# Altium footprint library tPad_Yeongmi.PcbLib: 25 footprints (part 1 of 2)
Each footprint in its own frame and in the unit in brackets; x right, y up, seen from the top. Pads: shape width x height; smd on the part's side, far side on the other; paste and mask are expansions set on the pad; w line width, h text height; cw(c..) or ccw(c..) is an arc to the next point about the centre after c.
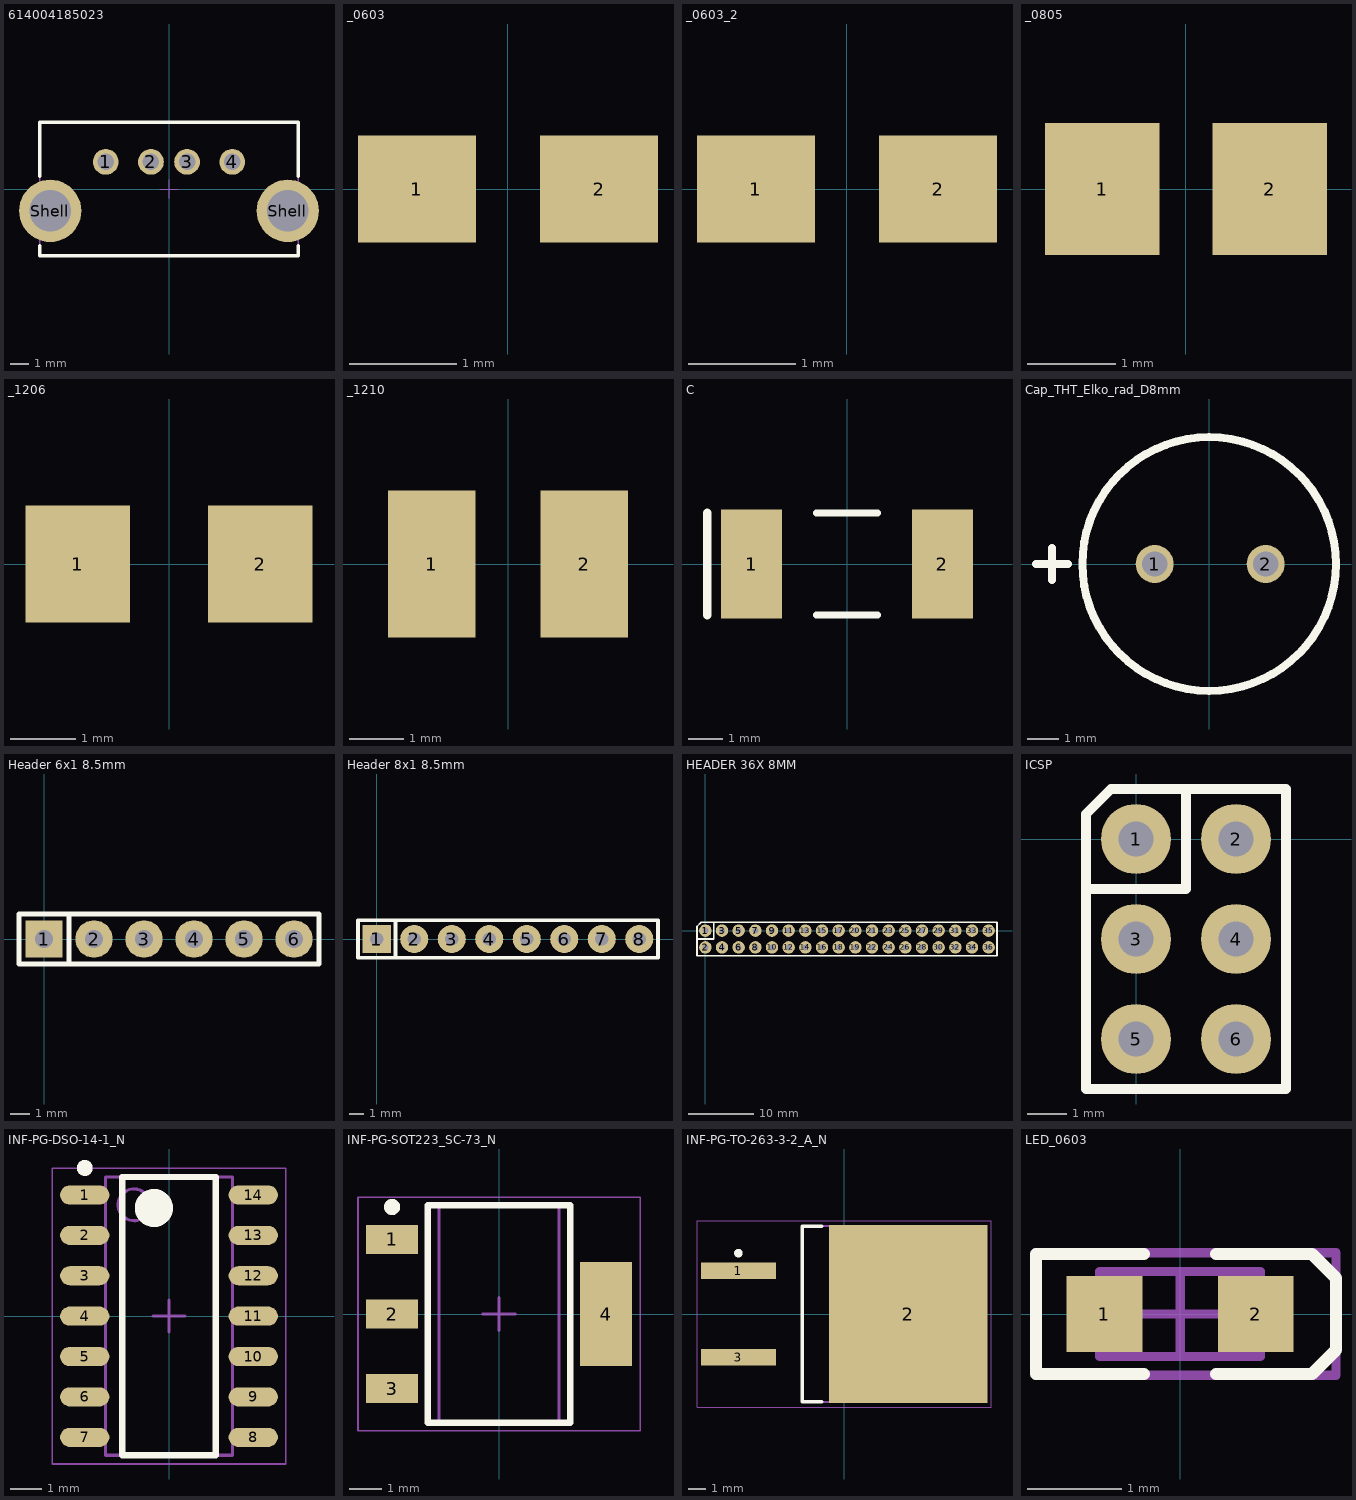
[diagram p0: the footprints below, top view; thin cyan lines are the x and y axes]

## 614004185023 [mm]
pads (6):
  round 1.42 hole 0.92: 1(-3.5,1.5) 2(-1,1.5) 3(1,1.5) 4(3.5,1.5)
  round 3.45 hole 2.3: Shell(-6.57,-1.21) Shell(6.57,-1.21)
Top Overlay:
  lines w0.2: -7.15,-3.15 -7.15,-3.7 7.15,-3.7 7.15,-3.15 ; -7.15,0.7 -7.15,3.7 7.15,3.7 7.15,0.7
Mechanical 13:
  lines w0.1: -7.15,-3.7 7.15,-3.7 7.15,3.7 -7.15,3.7 -7.15,-3.7
Mechanical 15:
  lines w0.05: -0.5,0 0.5,0 ; 0,-0.5 0,0.5
3D body "614004185023.stp": height 10.03, standoff -2.97, extent -7.15,-3.7 7.15,3.7

## _0603 [mm]
pads (2):
  rect 1.1x1 smd: 1(-0.85,0) 2(0.85,0)
3D body "SW3dPS-0603 SMD Capacitor.STEP": height 0.3, standoff 0, extent -0.8,-0.406 0.8,0.394

## _0603_2 [mm]
pads (2):
  rect 1.1x1 smd: 1(-0.85,0) 2(0.85,0)
3D body "SW3dPS-0603 SMD Capacitor.STEP": height 0.3, standoff 0, extent -0.8,-0.406 0.8,0.394

## _0805 [mm]
pads (2):
  rect 1.3x1.5 smd: 1(-0.95,0) 2(0.95,0)
3D body "SW3dPS-0805 SMD Capacitor.STEP": height 0.78, standoff 0, extent -1,-0.635 1,0.615

## _1206 [mm]
pads (2):
  rect 1.6x1.8 smd: 1(-1.4,0) 2(1.4,0)
3D body "SW3dPS-1206 SMD Resistor.STEP": height 1, standoff 0, extent -1.6,-0.813 1.6,0.787

## _1210 [mm]
pads (2):
  rect 1.6x2.7 smd: 1(-1.4,0) 2(1.4,0)
3D body "User Library-V1210HD.STEP": height 1.5, standoff 0, extent -1.575,-1.245 1.625,1.255

## C [mm]
pads (2):
  rect 1.8x3.2 smd: 1(-2.8,0) 2(2.8,0)
Top Overlay:
  lines w0.2: -0.9,-1.5 0.9,-1.5 ; -0.9,1.5 0.9,1.5
  lines w0.254: -4.1,-1.5 -4.1,1.5
3D body "User Library-2512 SMD Resistor.STEP": height 1.6, standoff 0, extent -3.175,-1.499 3.175,1.501

## Cap_THT_Elko_rad_D8mm [mm]
pads (2):
  round 1.2 hole 0.8: 1(-1.718,0) 2(1.782,0)
Top Overlay:
  circle w0.254: c0,0 r4
  lines w0.254: -5.461,0 -4.445,0 ; -4.953,-0.508 -4.953,0.508
3D body "User Library-CAP 8X11_5.STEP": height 11.74, standoff -18.75, extent -3.936,-4 4.064,4

## Header 6x1 8.5mm [mm]
pads (6):
  rect 1.9x1.9 hole 0.9: 1(0,0)
  round 1.9 hole 0.9: 2(2.54,0) 3(5.08,0) 4(7.62,0) 5(10.16,0) 6(12.7,0)
Top Overlay:
  lines w0.254: 1.27,-1.27 -1.27,-1.27 -1.27,0 -1.27,1.27 1.27,1.27 ; 1.27,-1.27 1.27,1.27 ; 1.27,-1.27 13.97,-1.27 13.97,1.27 1.27,1.27
3D body "SIL_Socket06.stp": height 8.5, standoff -14.85, extent -1.27,-1.27 13.97,1.27

## Header 8x1 8.5mm [mm]
pads (8):
  rect 1.9x1.9 hole 0.9: 1(0,0)
  round 1.9 hole 0.9: 2(2.54,0) 3(5.08,0) 4(7.62,0) 5(10.16,0) 6(12.7,0) 7(15.24,0) 8(17.78,0)
Top Overlay:
  lines w0.254: 1.27,-1.27 1.27,1.27 ; -1.27,-1.27 -1.27,1.27 19.05,1.27 19.05,-1.27 -1.27,-1.27
3D body "SIL_Socket08_.stp": height 8.5, standoff -14.85, extent -1.27,-1.27 19.05,1.27

## HEADER 36X 8MM [mm]
pads (36):
  round 1.9 hole 0.9: 1(0,0) 2(0,-2.54) 3(2.54,0) 4(2.54,-2.54) 5(5.08,0) 6(5.08,-2.54) 7(7.62,0) 8(7.62,-2.54) 9(10.16,0) 10(10.16,-2.54) 11(12.7,0) 12(12.7,-2.54) 13(15.24,0) 14(15.24,-2.54) 15(17.78,0) 16(17.78,-2.54) 17(20.32,0) 18(20.32,-2.54) 19(22.86,-2.54) 20(22.86,0) 21(25.4,0) 22(25.4,-2.54) 23(27.94,0) 24(27.94,-2.54) 25(30.48,0) 26(30.48,-2.54) 27(33.02,0) 28(33.02,-2.54) 29(35.56,0) 30(35.56,-2.54) 31(38.1,0) 32(38.1,-2.54) 33(40.64,0) 34(40.64,-2.54) 35(43.18,0) 36(43.18,-2.54)
Top Overlay:
  lines w0.254: -1.27,-1.27 1.27,-1.27 1.27,1.27 ; -1.27,-3.81 44.45,-3.81 44.45,1.27 -0.635,1.27 -1.27,0.635 -1.27,-3.81
3D body "SIL_Socket36.stp": height 8.5, standoff -14.85, extent -1.27,-3.81 44.45,1.27

## ICSP [mil]
pads (6):
  round 70 hole 35.43: 1(0,0) 2(100,0) 3(0,-100) 4(100,-100) 5(0,-200) 6(100,-200)
Top Overlay:
  lines w10: -50,-50 50,-50 50,50 ; -50,-250 150,-250 150,50 -25,50 -50,25 -50,-250
3D body "ICSP.stp": height 484.65, standoff -105.84, extent -50,-250 150,50

## INF-PG-DSO-14-1_N [mm]
pads (14):
  oval 1.55x0.6 smd: 1(-2.65,3.81) 2(-2.65,2.54) 3(-2.65,1.27) 4(-2.65,0) 5(-2.65,-1.27) 6(-2.65,-2.54) 7(-2.65,-3.81) 8(2.65,-3.81) 9(2.65,-2.54) 10(2.65,-1.27) 11(2.65,0) 12(2.65,1.27) 13(2.65,2.54) 14(2.65,3.81)
Top Overlay:
  circle w0.6: c-0.475,3.4 r0.3
  circle w0.25: c-2.65,4.66 r0.125
  lines w0.2: -1.475,-4.375 1.475,-4.375 1.475,4.375 -1.475,4.375 -1.475,-4.375
Mechanical 13:
  circle w0.1: c-1.1,3.5 r0.5
  lines w0.1: -2,-4.375 2,-4.375 2,4.375 -2,4.375 -2,-4.375
Mechanical 15:
  lines w0.05: -3.675,-4.65 3.675,-4.65 3.675,4.65 -3.675,4.65 -3.675,-4.65
  lines w0.1: -0.5,0 0.5,0 ; 0,-0.5 0,0.5
3D body: height 1.75, standoff 0.11, extent -2,-4.375 2,4.375

## INF-PG-SOT223_SC-73_N [mm]
pads (4):
  rect 1.6x0.9 smd: 1(-3.3,2.3) 2(-3.3,0) 3(-3.3,-2.3)
  rect 1.6x3.2 smd: 4(3.3,0)
Top Overlay:
  circle w0.25: c-3.3,3.3 r0.125
  lines w0.2: -2.2,-3.35 2.2,-3.35 2.2,3.35 -2.2,3.35 -2.2,-3.35
Mechanical 13:
  lines w0.1: -1.85,-3.35 1.85,-3.35 1.85,3.35 -1.85,3.35 -1.85,-3.35
Mechanical 15:
  lines w0.05: -4.35,-3.6 4.35,-3.6 4.35,3.6 -4.35,3.6 -4.35,-3.6
  lines w0.1: -0.5,0 0.5,0 ; 0,-0.5 0,0.5
3D body: height 1.8, standoff 0.1, extent -1.85,-3.35 1.85,3.35

## INF-PG-TO-263-3-2_A_N [mm]
pads (3):
  rect 4.4x0.95 smd: 1(-6.2,2.54) 3(-6.2,-2.54)
  rect 9.3x10.4 smd: 2(3.75,0)
Top Overlay:
  circle w0.25: c-6.2,3.565 r0.125
  lines w0.2: -1.3,-5.15 -2.45,-5.15 -2.45,5.15 -1.3,5.15
Mechanical 13:
  lines w0.1: -2.45,-5.15 -2.45,5.15 7,5.15 7,-5.15 -2.45,-5.15
Mechanical 15:
  lines w0.05: -8.625,-5.45 -8.625,5.45 8.625,5.45 8.625,-5.45 -8.625,-5.45
  lines w0.1: -0.5,0 0.5,0 ; 0,-0.5 0,0.5
3D body: height 4.57, standoff 0, extent -2.45,-5.15 7,5.15

## LED_0603 [mm]
pads (2):
  rect 0.8x0.8 smd: 1(-0.8,0) 2(0.8,0)
Top Overlay:
  lines w0.127: -0.381,-0.635 -1.524,-0.635 -1.524,0.635 -0.381,0.635 ; 0.381,-0.635 1.397,-0.635 1.651,-0.381 1.651,0.381 1.397,0.635 0.381,0.635
Mechanical 13:
  lines w0.1: -0.85,-0.45 0.85,-0.45 0.85,0.45 -0.85,0.45 -0.85,-0.45
Mechanical 15:
  lines w0.1: -0.45,0 0.45,0 ; 0,-0.45 0,0.45 ; -1.525,-0.65 1.651,-0.65 1.651,0.65 -1.525,0.65 -1.525,-0.65
3D body "WL-SMCW_0603_LED.stp": height 0.7, standoff 0, extent -0.8,-0.4 0.8,0.4